# Altium footprint library TLP7830TP4,E.PcbLib: 1 footprints
Each footprint in its own frame and in the unit in brackets; x right, y up, seen from the top. Pads: shape width x height; smd on the part's side, far side on the other; paste and mask are expansions set on the pad; w line width, h text height; cw(c..) or ccw(c..) is an arc to the next point about the centre after c.
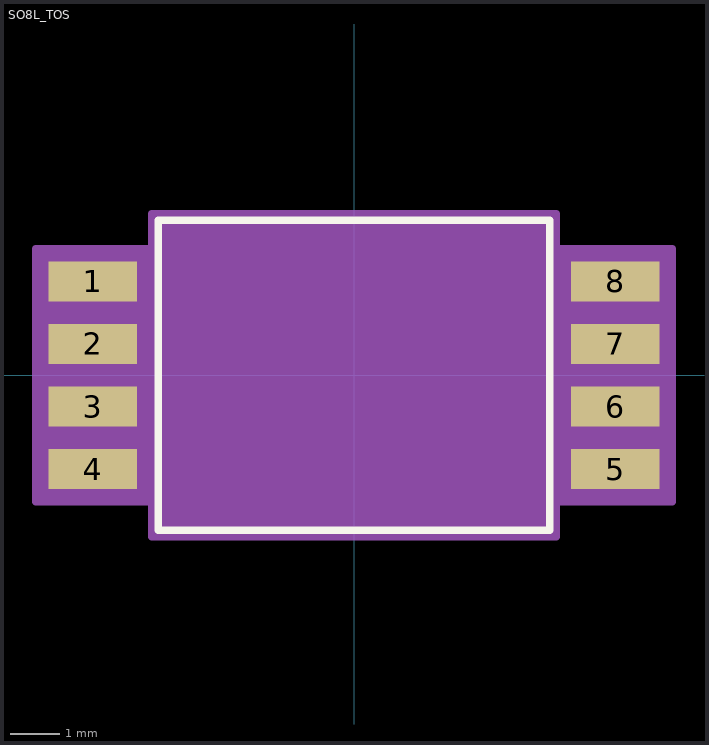
[diagram p0: the footprint, top view; thin cyan lines are the x and y axes]

## SO8L_TOS [mil]
pads (8):
  rect 71x32 smd paste+0 mask+0: 1(-208.66,75) 2(-208.66,25) 3(-208.66,-25) 4(-208.66,-75) 5(208.66,-75) 6(208.66,-25) 7(208.66,25) 8(208.66,75)
Top Overlay:
  lines w6: -156.5,-124 156.5,-124 156.5,124 -156.5,124 -156.5,-124
Mechanical 13:
  lines w0: -12,119 ccw(c0,119) 12,119
  lines w1: -151.5,-119 151.5,-119 151.5,119 -151.5,119 -151.5,-119
Mechanical 15:
  region: -161.5,-101 -254.16,-101 -254.16,101 -161.5,101 -161.5,129 161.5,129 161.5,101 254.16,101 254.16,-101 161.5,-101 161.5,-129 -161.5,-129
  lines w6: -254.16,-101 -254.16,101 -161.5,101 -161.5,129 161.5,129 161.5,101 254.16,101 254.16,-101 161.5,-101 161.5,-129 -161.5,-129 -161.5,-101 -254.16,-101
3D body "SO8L_TOS.step": height 87.01, standoff 0, extent -230.39,-119.02 230.39,119.02